# Altium footprint library LabLib.PcbLib: 145 footprints (part 9 of 10)
Each footprint in its own frame and in the unit in brackets; x right, y up, seen from the top. Pads: shape width x height; smd on the part's side, far side on the other; paste and mask are expansions set on the pad; w line width, h text height; cw(c..) or ccw(c..) is an arc to the next point about the centre after c.
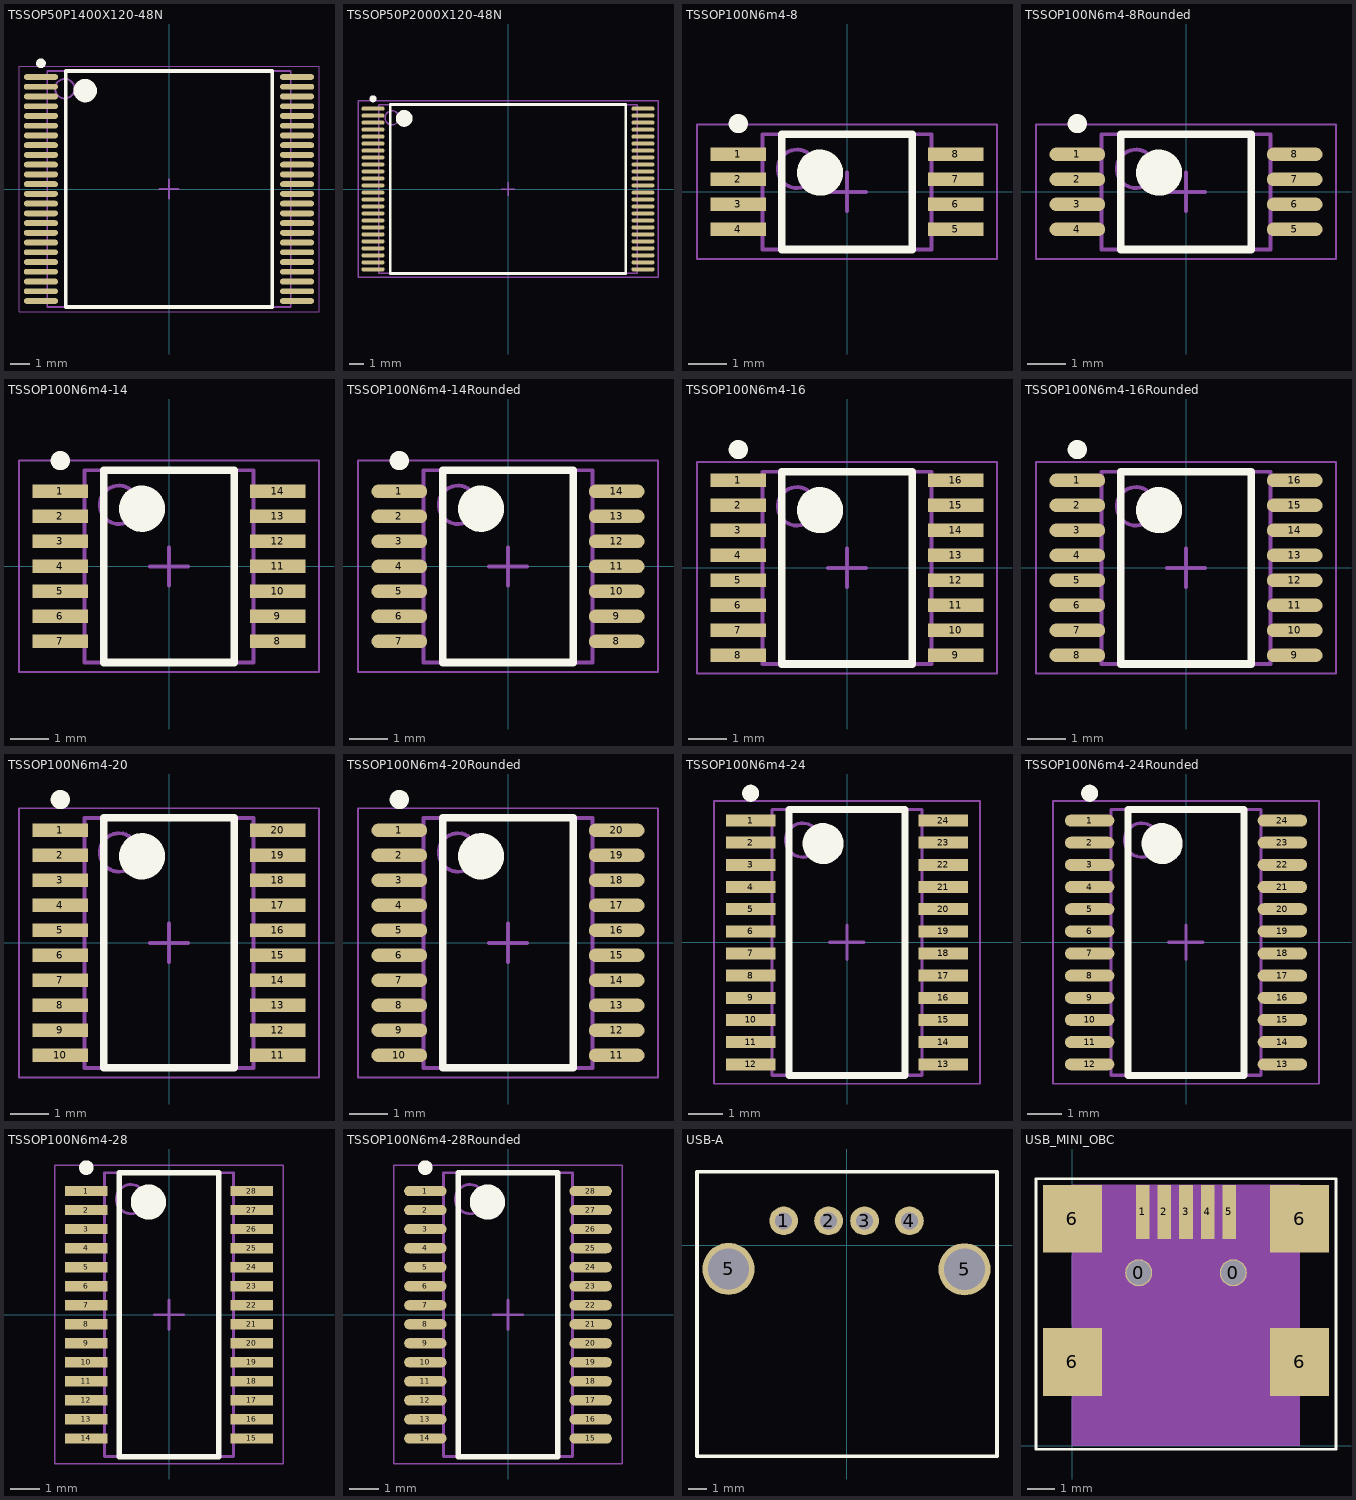
[diagram p8: the footprints below, top view; thin cyan lines are the x and y axes]

## TSSOP50P1400X120-48N [mm] "TSSOP, 48-Leads, Body 12,00x12,40mm, Pitch 0,50mm, IPC Medium Density"
height 1.2
pads (48):
  oval 1.75x0.3 smd: 1(-6.575,5.75) 2(-6.575,5.25) 3(-6.575,4.75) 4(-6.575,4.25) 5(-6.575,3.75) 6(-6.575,3.25) 7(-6.575,2.75) 8(-6.575,2.25) 9(-6.575,1.75) 10(-6.575,1.25) 11(-6.575,0.75) 12(-6.575,0.25) 13(-6.575,-0.25) 14(-6.575,-0.75) 15(-6.575,-1.25) 16(-6.575,-1.75) 17(-6.575,-2.25) 18(-6.575,-2.75) 19(-6.575,-3.25) 20(-6.575,-3.75) 21(-6.575,-4.25) 22(-6.575,-4.75) 23(-6.575,-5.25) 24(-6.575,-5.75) 25(6.575,-5.75) 26(6.575,-5.25) 27(6.575,-4.75) 28(6.575,-4.25) 29(6.575,-3.75) 30(6.575,-3.25) 31(6.575,-2.75) 32(6.575,-2.25) 33(6.575,-1.75) 34(6.575,-1.25) 35(6.575,-0.75) 36(6.575,-0.25) 37(6.575,0.25) 38(6.575,0.75) 39(6.575,1.25) 40(6.575,1.75) 41(6.575,2.25) 42(6.575,2.75) 43(6.575,3.25) 44(6.575,3.75) 45(6.575,4.25) 46(6.575,4.75) 47(6.575,5.25) 48(6.575,5.75)
Top Overlay:
  circle w0.25: c-6.575,6.45 r0.125
  circle w0.6: c-4.3,5.05 r0.3
  lines w0.2: -5.3,-6.05 -5.3,6.05 5.3,6.05 5.3,-6.05 -5.3,-6.05
Mechanical 13:
  circle w0.1: c-5.35,5.15 r0.5
  lines w0.1: -6.25,-6.05 -6.25,6.05 6.25,6.05 6.25,-6.05 -6.25,-6.05
Mechanical 15:
  lines w0.05: -7.7,-6.3 -7.7,6.3 7.7,6.3 7.7,-6.3 -7.7,-6.3
  lines w0.1: -0.5,0 0.5,0 ; 0,-0.5 0,0.5
3D body: height 1.2, standoff 0.05, extent -6.25,-6.05 6.25,6.05

## TSSOP50P2000X120-48N [mm]
pads (48):
  oval 1.65x0.3 smd: 1(-9.65,5.75) 2(-9.65,5.25) 3(-9.65,4.75) 4(-9.65,4.25) 5(-9.65,3.75) 6(-9.65,3.25) 7(-9.65,2.75) 8(-9.65,2.25) 9(-9.65,1.75) 10(-9.65,1.25) 11(-9.65,0.75) 12(-9.65,0.25) 13(-9.65,-0.25) 14(-9.65,-0.75) 15(-9.65,-1.25) 16(-9.65,-1.75) 17(-9.65,-2.25) 18(-9.65,-2.75) 19(-9.65,-3.25) 20(-9.65,-3.75) 21(-9.65,-4.25) 22(-9.65,-4.75) 23(-9.65,-5.25) 24(-9.65,-5.75) 25(9.65,-5.75) 26(9.65,-5.25) 27(9.65,-4.75) 28(9.65,-4.25) 29(9.65,-3.75) 30(9.65,-3.25) 31(9.65,-2.75) 32(9.65,-2.25) 33(9.65,-1.75) 34(9.65,-1.25) 35(9.65,-0.75) 36(9.65,-0.25) 37(9.65,0.25) 38(9.65,0.75) 39(9.65,1.25) 40(9.65,1.75) 41(9.65,2.25) 42(9.65,2.75) 43(9.65,3.25) 44(9.65,3.75) 45(9.65,4.25) 46(9.65,4.75) 47(9.65,5.25) 48(9.65,5.75)
Top Overlay:
  circle w0.25: c-9.65,6.45 r0.125
  circle w0.6: c-7.425,5.05 r0.3
  lines w0.2: -8.425,-6.05 -8.425,6.05 8.425,6.05 8.425,-6.05 -8.425,-6.05
Mechanical 13:
  circle w0.1: c-8.29,5.09 r0.5
  lines w0.1: -9.24,-6.04 -9.24,6.04 9.24,6.04 9.24,-6.04 -9.24,-6.04
Mechanical 15:
  lines w0.1: -0.5,0 0.5,0 ; 0,-0.5 0,0.5 ; -10.725,-6.3 -10.725,6.3 10.725,6.3 10.725,-6.3 -10.725,-6.3
3D body: height 1.2, standoff 0.05, extent -9.24,-6.04 9.24,6.04

## TSSOP100N6m4-8 [mm]
height 0.9
pads (8):
  rect 1.45x0.35 smd: 1(-2.825,0.975) 2(-2.825,0.325) 3(-2.825,-0.325) 4(-2.825,-0.975) 5(2.825,-0.975) 6(2.825,-0.325) 7(2.825,0.325) 8(2.825,0.975)
Top Overlay:
  circle w0.6: c-0.7,0.5 r0.3
  circle w0.25: c-2.825,1.775 r0.125
  lines w0.2: -1.7,-1.5 1.7,-1.5 1.7,1.5 -1.7,1.5 -1.7,-1.5
Mechanical 13:
  circle w0.1: c-1.3,0.6 r0.5
  lines w0.1: -2.2,-1.5 2.2,-1.5 2.2,1.5 -2.2,1.5 -2.2,-1.5
Mechanical 15:
  lines w0.05: -3.9,-1.75 3.9,-1.75 3.9,1.75 -3.9,1.75 -3.9,-1.75
  lines w0.1: -0.5,0 0.5,0 ; 0,-0.5 0,0.5
3D body: height 0.9, standoff 0.1, extent -2.2,-1.5 2.2,1.5

## TSSOP100N6m4-8Rounded [mm]
height 0.9
pads (8):
  oval 1.45x0.35 smd: 1(-2.825,0.975) 2(-2.825,0.325) 3(-2.825,-0.325) 4(-2.825,-0.975) 5(2.825,-0.975) 6(2.825,-0.325) 7(2.825,0.325) 8(2.825,0.975)
Top Overlay:
  circle w0.6: c-0.7,0.5 r0.3
  circle w0.25: c-2.825,1.775 r0.125
  lines w0.2: -1.7,-1.5 1.7,-1.5 1.7,1.5 -1.7,1.5 -1.7,-1.5
Mechanical 13:
  circle w0.1: c-1.3,0.6 r0.5
  lines w0.1: -2.2,-1.5 2.2,-1.5 2.2,1.5 -2.2,1.5 -2.2,-1.5
Mechanical 15:
  lines w0.05: -3.9,-1.75 3.9,-1.75 3.9,1.75 -3.9,1.75 -3.9,-1.75
  lines w0.1: -0.5,0 0.5,0 ; 0,-0.5 0,0.5
3D body: height 0.9, standoff 0.1, extent -2.2,-1.5 2.2,1.5

## TSSOP100N6m4-14 [mm]
height 0.9
pads (14):
  rect 1.45x0.35 smd: 1(-2.825,1.95) 2(-2.825,1.3) 3(-2.825,0.65) 4(-2.825,0) 5(-2.825,-0.65) 6(-2.825,-1.3) 7(-2.825,-1.95) 8(2.825,-1.95) 9(2.825,-1.3) 10(2.825,-0.65) 11(2.825,0) 12(2.825,0.65) 13(2.825,1.3) 14(2.825,1.95)
Top Overlay:
  circle w0.25: c-2.825,2.75 r0.125
  circle w0.6: c-0.7,1.5 r0.3
  lines w0.2: -1.7,-2.5 -1.7,2.5 1.7,2.5 1.7,-2.5 -1.7,-2.5
Mechanical 13:
  circle w0.1: c-1.3,1.6 r0.5
  lines w0.1: -2.2,-2.5 -2.2,2.5 2.2,2.5 2.2,-2.5 -2.2,-2.5
Mechanical 15:
  lines w0.05: -3.9,-2.75 -3.9,2.75 3.9,2.75 3.9,-2.75 -3.9,-2.75
  lines w0.1: -0.5,0 0.5,0 ; 0,-0.5 0,0.5
3D body: height 0.9, standoff 0.1, extent -2.2,-2.5 2.2,2.5

## TSSOP100N6m4-14Rounded [mm]
height 0.9
pads (14):
  oval 1.45x0.35 smd: 1(-2.825,1.95) 2(-2.825,1.3) 3(-2.825,0.65) 4(-2.825,0) 5(-2.825,-0.65) 6(-2.825,-1.3) 7(-2.825,-1.95) 8(2.825,-1.95) 9(2.825,-1.3) 10(2.825,-0.65) 11(2.825,0) 12(2.825,0.65) 13(2.825,1.3) 14(2.825,1.95)
Top Overlay:
  circle w0.6: c-0.7,1.5 r0.3
  circle w0.25: c-2.825,2.75 r0.125
  lines w0.2: -1.7,-2.5 1.7,-2.5 1.7,2.5 -1.7,2.5 -1.7,-2.5
Mechanical 13:
  circle w0.1: c-1.3,1.6 r0.5
  lines w0.1: -2.2,-2.5 2.2,-2.5 2.2,2.5 -2.2,2.5 -2.2,-2.5
Mechanical 15:
  lines w0.05: -3.9,-2.75 3.9,-2.75 3.9,2.75 -3.9,2.75 -3.9,-2.75
  lines w0.1: -0.5,0 0.5,0 ; 0,-0.5 0,0.5
3D body: height 0.9, standoff 0.1, extent -2.2,-2.5 2.2,2.5

## TSSOP100N6m4-16 [mm]
height 0.9
pads (16):
  rect 1.45x0.35 smd: 1(-2.825,2.275) 2(-2.825,1.625) 3(-2.825,0.975) 4(-2.825,0.325) 5(-2.825,-0.325) 6(-2.825,-0.975) 7(-2.825,-1.625) 8(-2.825,-2.275) 9(2.825,-2.275) 10(2.825,-1.625) 11(2.825,-0.975) 12(2.825,-0.325) 13(2.825,0.325) 14(2.825,0.975) 15(2.825,1.625) 16(2.825,2.275)
Top Overlay:
  circle w0.25: c-2.825,3.075 r0.125
  circle w0.6: c-0.7,1.5 r0.3
  lines w0.2: -1.7,-2.5 -1.7,2.5 1.7,2.5 1.7,-2.5 -1.7,-2.5
Mechanical 13:
  circle w0.1: c-1.3,1.6 r0.5
  lines w0.1: -2.2,-2.5 -2.2,2.5 2.2,2.5 2.2,-2.5 -2.2,-2.5
Mechanical 15:
  lines w0.05: -3.9,-2.75 -3.9,2.75 3.9,2.75 3.9,-2.75 -3.9,-2.75
  lines w0.1: -0.5,0 0.5,0 ; 0,-0.5 0,0.5
3D body: height 0.9, standoff 0.1, extent -2.2,-2.5 2.2,2.5

## TSSOP100N6m4-16Rounded [mm]
height 0.9
pads (16):
  oval 1.45x0.35 smd: 1(-2.825,2.275) 2(-2.825,1.625) 3(-2.825,0.975) 4(-2.825,0.325) 5(-2.825,-0.325) 6(-2.825,-0.975) 7(-2.825,-1.625) 8(-2.825,-2.275) 9(2.825,-2.275) 10(2.825,-1.625) 11(2.825,-0.975) 12(2.825,-0.325) 13(2.825,0.325) 14(2.825,0.975) 15(2.825,1.625) 16(2.825,2.275)
Top Overlay:
  circle w0.25: c-2.825,3.075 r0.125
  circle w0.6: c-0.7,1.5 r0.3
  lines w0.2: -1.7,-2.5 -1.7,2.5 1.7,2.5 1.7,-2.5 -1.7,-2.5
Mechanical 13:
  circle w0.1: c-1.3,1.6 r0.5
  lines w0.1: -2.2,-2.5 -2.2,2.5 2.2,2.5 2.2,-2.5 -2.2,-2.5
Mechanical 15:
  lines w0.05: -3.9,-2.75 -3.9,2.75 3.9,2.75 3.9,-2.75 -3.9,-2.75
  lines w0.1: -0.5,0 0.5,0 ; 0,-0.5 0,0.5
3D body: height 0.9, standoff 0.1, extent -2.2,-2.5 2.2,2.5

## TSSOP100N6m4-20 [mm] "TSOP, 20-Leads, Body 6,50x4,40mm, Pitch 0,65mm, IPC Medium Density"
height 0.9
pads (20):
  rect 1.45x0.35 smd: 1(-2.825,2.925) 2(-2.825,2.275) 3(-2.825,1.625) 4(-2.825,0.975) 5(-2.825,0.325) 6(-2.825,-0.325) 7(-2.825,-0.975) 8(-2.825,-1.625) 9(-2.825,-2.275) 10(-2.825,-2.925) 11(2.825,-2.925) 12(2.825,-2.275) 13(2.825,-1.625) 14(2.825,-0.975) 15(2.825,-0.325) 16(2.825,0.325) 17(2.825,0.975) 18(2.825,1.625) 19(2.825,2.275) 20(2.825,2.925)
Top Overlay:
  circle w0.6: c-0.7,2.25 r0.3
  circle w0.25: c-2.825,3.725 r0.125
  lines w0.2: -1.7,-3.25 1.7,-3.25 1.7,3.25 -1.7,3.25 -1.7,-3.25
Mechanical 13:
  circle w0.1: c-1.3,2.35 r0.5
  lines w0.1: -2.2,-3.25 2.2,-3.25 2.2,3.25 -2.2,3.25 -2.2,-3.25
Mechanical 15:
  lines w0.05: -3.9,-3.5 3.9,-3.5 3.9,3.5 -3.9,3.5 -3.9,-3.5
  lines w0.1: -0.5,0 0.5,0 ; 0,-0.5 0,0.5
3D body: height 0.9, standoff 0.1, extent -2.2,-3.25 2.2,3.25

## TSSOP100N6m4-20Rounded [mm]
height 0.9
pads (20):
  oval 1.45x0.35 smd: 1(-2.825,2.925) 2(-2.825,2.275) 3(-2.825,1.625) 4(-2.825,0.975) 5(-2.825,0.325) 6(-2.825,-0.325) 7(-2.825,-0.975) 8(-2.825,-1.625) 9(-2.825,-2.275) 10(-2.825,-2.925) 11(2.825,-2.925) 12(2.825,-2.275) 13(2.825,-1.625) 14(2.825,-0.975) 15(2.825,-0.325) 16(2.825,0.325) 17(2.825,0.975) 18(2.825,1.625) 19(2.825,2.275) 20(2.825,2.925)
Top Overlay:
  circle w0.6: c-0.7,2.25 r0.3
  circle w0.25: c-2.825,3.725 r0.125
  lines w0.2: -1.7,-3.25 1.7,-3.25 1.7,3.25 -1.7,3.25 -1.7,-3.25
Mechanical 13:
  circle w0.1: c-1.3,2.35 r0.5
  lines w0.1: -2.2,-3.25 2.2,-3.25 2.2,3.25 -2.2,3.25 -2.2,-3.25
Mechanical 15:
  lines w0.05: -3.9,-3.5 3.9,-3.5 3.9,3.5 -3.9,3.5 -3.9,-3.5
  lines w0.1: -0.5,0 0.5,0 ; 0,-0.5 0,0.5
3D body: height 0.9, standoff 0.1, extent -2.2,-3.25 2.2,3.25

## TSSOP100N6m4-24 [mm]
height 0.9
pads (24):
  rect 1.45x0.35 smd: 1(-2.825,3.575) 2(-2.825,2.925) 3(-2.825,2.275) 4(-2.825,1.625) 5(-2.825,0.975) 6(-2.825,0.325) 7(-2.825,-0.325) 8(-2.825,-0.975) 9(-2.825,-1.625) 10(-2.825,-2.275) 11(-2.825,-2.925) 12(-2.825,-3.575) 13(2.825,-3.575) 14(2.825,-2.925) 15(2.825,-2.275) 16(2.825,-1.625) 17(2.825,-0.975) 18(2.825,-0.325) 19(2.825,0.325) 20(2.825,0.975) 21(2.825,1.625) 22(2.825,2.275) 23(2.825,2.925) 24(2.825,3.575)
Top Overlay:
  circle w0.6: c-0.7,2.9 r0.3
  circle w0.25: c-2.825,4.375 r0.125
  lines w0.2: -1.7,-3.9 1.7,-3.9 1.7,3.9 -1.7,3.9 -1.7,-3.9
Mechanical 13:
  circle w0.1: c-1.3,3 r0.5
  lines w0.1: -2.2,-3.9 2.2,-3.9 2.2,3.9 -2.2,3.9 -2.2,-3.9
Mechanical 15:
  lines w0.05: -3.9,-4.15 3.9,-4.15 3.9,4.15 -3.9,4.15 -3.9,-4.15
  lines w0.1: -0.5,0 0.5,0 ; 0,-0.5 0,0.5
3D body: height 0.9, standoff 0.1, extent -2.2,-3.9 2.2,3.9

## TSSOP100N6m4-24Rounded [mm]
height 0.9
pads (24):
  oval 1.45x0.35 smd: 1(-2.825,3.575) 2(-2.825,2.925) 3(-2.825,2.275) 4(-2.825,1.625) 5(-2.825,0.975) 6(-2.825,0.325) 7(-2.825,-0.325) 8(-2.825,-0.975) 9(-2.825,-1.625) 10(-2.825,-2.275) 11(-2.825,-2.925) 12(-2.825,-3.575) 13(2.825,-3.575) 14(2.825,-2.925) 15(2.825,-2.275) 16(2.825,-1.625) 17(2.825,-0.975) 18(2.825,-0.325) 19(2.825,0.325) 20(2.825,0.975) 21(2.825,1.625) 22(2.825,2.275) 23(2.825,2.925) 24(2.825,3.575)
Top Overlay:
  circle w0.6: c-0.7,2.9 r0.3
  circle w0.25: c-2.825,4.375 r0.125
  lines w0.2: -1.7,-3.9 1.7,-3.9 1.7,3.9 -1.7,3.9 -1.7,-3.9
Mechanical 13:
  circle w0.1: c-1.3,3 r0.5
  lines w0.1: -2.2,-3.9 2.2,-3.9 2.2,3.9 -2.2,3.9 -2.2,-3.9
Mechanical 15:
  lines w0.05: -3.9,-4.15 3.9,-4.15 3.9,4.15 -3.9,4.15 -3.9,-4.15
  lines w0.1: -0.5,0 0.5,0 ; 0,-0.5 0,0.5
3D body: height 0.9, standoff 0.1, extent -2.2,-3.9 2.2,3.9

## TSSOP100N6m4-28 [mm]
height 0.9
pads (28):
  rect 1.45x0.35 smd: 1(-2.825,4.225) 2(-2.825,3.575) 3(-2.825,2.925) 4(-2.825,2.275) 5(-2.825,1.625) 6(-2.825,0.975) 7(-2.825,0.325) 8(-2.825,-0.325) 9(-2.825,-0.975) 10(-2.825,-1.625) 11(-2.825,-2.275) 12(-2.825,-2.925) 13(-2.825,-3.575) 14(-2.825,-4.225) 15(2.825,-4.225) 16(2.825,-3.575) 17(2.825,-2.925) 18(2.825,-2.275) 19(2.825,-1.625) 20(2.825,-0.975) 21(2.825,-0.325) 22(2.825,0.325) 23(2.825,0.975) 24(2.825,1.625) 25(2.825,2.275) 26(2.825,2.925) 27(2.825,3.575) 28(2.825,4.225)
Top Overlay:
  circle w0.6: c-0.7,3.85 r0.3
  circle w0.25: c-2.825,5.025 r0.125
  lines w0.2: -1.7,-4.85 1.7,-4.85 1.7,4.85 -1.7,4.85 -1.7,-4.85
Mechanical 13:
  circle w0.1: c-1.3,3.95 r0.5
  lines w0.1: -2.2,-4.85 2.2,-4.85 2.2,4.85 -2.2,4.85 -2.2,-4.85
Mechanical 15:
  lines w0.05: -3.9,-5.1 3.9,-5.1 3.9,5.1 -3.9,5.1 -3.9,-5.1
  lines w0.1: -0.5,0 0.5,0 ; 0,-0.5 0,0.5
3D body: height 0.9, standoff 0.1, extent -2.2,-4.85 2.2,4.85

## TSSOP100N6m4-28Rounded [mm]
height 0.9
pads (28):
  oval 1.45x0.35 smd: 1(-2.825,4.225) 2(-2.825,3.575) 3(-2.825,2.925) 4(-2.825,2.275) 5(-2.825,1.625) 6(-2.825,0.975) 7(-2.825,0.325) 8(-2.825,-0.325) 9(-2.825,-0.975) 10(-2.825,-1.625) 11(-2.825,-2.275) 12(-2.825,-2.925) 13(-2.825,-3.575) 14(-2.825,-4.225) 15(2.825,-4.225) 16(2.825,-3.575) 17(2.825,-2.925) 18(2.825,-2.275) 19(2.825,-1.625) 20(2.825,-0.975) 21(2.825,-0.325) 22(2.825,0.325) 23(2.825,0.975) 24(2.825,1.625) 25(2.825,2.275) 26(2.825,2.925) 27(2.825,3.575) 28(2.825,4.225)
Top Overlay:
  circle w0.25: c-2.825,5.025 r0.125
  circle w0.6: c-0.7,3.85 r0.3
  lines w0.2: -1.7,-4.85 -1.7,4.85 1.7,4.85 1.7,-4.85 -1.7,-4.85
Mechanical 13:
  circle w0.1: c-1.3,3.95 r0.5
  lines w0.1: -2.2,-4.85 -2.2,4.85 2.2,4.85 2.2,-4.85 -2.2,-4.85
Mechanical 15:
  lines w0.05: -3.9,-5.1 -3.9,5.1 3.9,5.1 3.9,-5.1 -3.9,-5.1
  lines w0.1: -0.5,0 0.5,0 ; 0,-0.5 0,0.5
3D body: height 0.9, standoff 0.1, extent -2.2,-4.85 2.2,4.85

## USB-A [mm] "Molex 067643-0910 Thru-hole top-mount USB-A receptacle"
height 7.4
pads (6):
  round 1.6 hole 0.95: 1(-3.5,1.35) 2(-1,1.35) 3(1,1.35) 4(3.5,1.35)
  round 2.9 hole 2.3: 5(-6.57,-1.328) 5(6.57,-1.35)
Top Overlay:
  lines w0.2: -8.225,4.075 -8.325,4.075 ; -8.325,4.075 -8.325,-11.75 8.375,-11.75 8.375,4.075 -8.325,4.075
  text "." at -5.225,5.6 h1.52
3D body "676430910.stp": height 7.73, standoff -3.7, extent -7.969,-11.45 8.029,3.81

## USB_MINI_OBC [mm]
pads (11):
  round 1 / inner round 1.524 / far side round 1 hole 0.9 unplated: 0(2.45,6.4) 0(5.95,6.4)
  rect 0.5x2 smd: 1(2.6,8.65) 2(3.4,8.65) 3(4.2,8.65) 4(5,8.65) 5(5.8,8.65)
  rect 2.2x2.5 smd: 6(0,3.1) 6(0,8.4) 6(8.4,3.1) 6(8.4,8.4)
Top Overlay:
  lines w0.1: -1.35,-0.125 -1.35,9.875 9.75,9.875 9.75,-0.125 -1.35,-0.125
Mechanical 4:
  lines w0.025: 0,1.713 0,0.325 0,0.025 8.4,0.025 8.4,1.713 ; 0,4.475 0,7.025 ; 1.225,8.925 2.238,8.925 ; 2.962,8.925 3.038,8.925 ; 3.762,8.925 3.838,8.925 ; 4.562,8.925 4.638,8.925 ; 5.362,8.925 5.438,8.925 ; 6.162,8.925 7.175,8.925 ; 8.4,4.475 8.4,7.025
Mechanical 8:
  text "4" at 5,7.296 h0.64
  text "1" at 2.6,7.296 h0.64
  text "2" at 3.4,7.296 h0.64
  text "3" at 4.2,7.296 h0.64
  text "9" at -0.25,1.846 h0.64
  text "8" at -0.25,7.296 h0.64
  text "7" at 8.65,1.846 h0.64
  text "6" at 8.65,7.296 h0.64
  text "5" at 5.8,7.296 h0.64
Mechanical 15:
  region: 0,0 0,9.65 8.4,9.65 8.4,0
3D body "USB_Mini_B_SMD_buchse.STEP": height 3.95, standoff -0.01, extent -0.8,-0.225 9.2,8.675